# Altium integrated library Capacitors.IntLib: 20 symbols
Pins are listed as number, name and electrical type; pins without a type are passive.

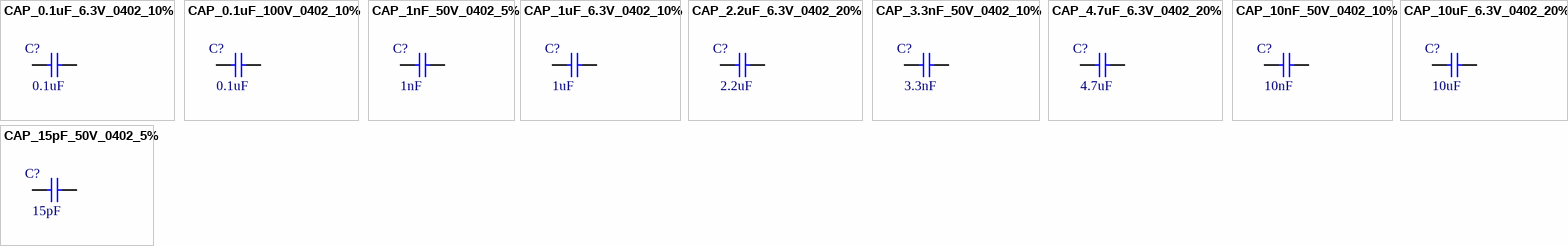
[diagram p0: symbols CAP_0.1uF_6.3V_0402_10% to CAP_15pF_50V_0402_5%]

## CAP_0.1uF_6.3V_0402_10%
designator C?, comment value 0.1uF  (hidden comment: 0.1uF 6.3V 0402)
0.1uF 6.3V 10% 0402 (1005 Metric); PartNumber: GRM155R70J104KA01D; Manufacturer: Murata; Mounting Technology: Surface Mount; PackageReference: 0402; PackageDescription: 0402 (1005 Metric); Voltage: 6.3V; Tolerance: 10%
footprint C0402[1005X55] (Chip Capacitor, Body 1.0x0.5mm)
pins: 1, 2

## CAP_0.1uF_100V_0402_10%
designator C?, comment value 0.1uF  (hidden comment: 0.1uF 100VV 0402)
0.1uF 100V 10% 0402 (1005 Metric); PartNumber: GRM155R62A104KE14D; Manufacturer: Murata; Mounting Technology: Surface Mount; PackageReference: 0402; PackageDescription: 0402 (1005 Metric); Voltage: 100V; Tolerance: 10%
footprint C0402[1005X55] (Chip Capacitor, Body 1.0x0.5mm)
pins: 1, 2

## CAP_1nF_50V_0402_5%
designator C?, comment value 1nF  (hidden comment: 1nF 50V 0402)
1nF 50V 5% 0402 (1005 Metric); PartNumber: GRM1555C1H102JA01D; Manufacturer: Murata; Mounting Technology: Surface Mount; PackageReference: 0402; PackageDescription: 0402 (1005 Metric); Voltage: 50V; Tolerance: 5%
footprint C0402[1005X55] (Chip Capacitor, Body 1.0x0.5mm)
pins: 1, 2

## CAP_1uF_6.3V_0402_10%
designator C?, comment value 1uF  (hidden comment: 1uF 6.3V 0402)
1uF 6.3V 10% 0402 (1005 Metric); PartNumber: GRM155R70J105KA12D; Manufacturer: Murata; Mounting Technology: Surface Mount; PackageReference: 0402; PackageDescription: 0402 (1005 Metric); Voltage: 6.3V; Tolerance: 10%
footprint C0402[1005X55] (Chip Capacitor, Body 1.0x0.5mm)
pins: 1, 2

## CAP_2.2uF_6.3V_0402_20%
designator C?, comment value 2.2uF  (hidden comment: 2.2uF 6.3V 0402)
2.2uF 6.3V 20% 0402 (1005 Metric); PartNumber: GRM155R60J225ME15D; Manufacturer: Murata; Mounting Technology: Surface Mount; PackageReference: 0402; PackageDescription: 0402 (1005 Metric); Voltage: 6.3V; Tolerance: 20%
footprint C0402[1005X55] (Chip Capacitor, Body 1.0x0.5mm)
pins: 1, 2

## CAP_3.3nF_50V_0402_10%
designator C?, comment value 3.3nF  (hidden comment: 3.3nF 50V 0402)
3.3nF 50V 10% 0402 (1005 Metric); PartNumber: GRM155R71H332KA01D; Manufacturer: Murata; Mounting Technology: Surface Mount; PackageReference: 0402; PackageDescription: 0402 (1005 Metric); Voltage: 50V; Tolerance: 10%
footprint C0402[1005X55] (Chip Capacitor, Body 1.0x0.5mm)
pins: 1, 2

## CAP_4.7uF_6.3V_0402_20%
designator C?, comment value 4.7uF  (hidden comment: 4.7uF 6.3V 0402)
4.7uF 6.3V 20% 0402 (1005 Metric); PartNumber: GRM155R60J475ME47D; Manufacturer: Murata; Mounting Technology: Surface Mount; PackageReference: 0402; PackageDescription: 0402 (1005 Metric); Voltage: 6.3V; Tolerance: 20%
footprint C0402[1005X55] (Chip Capacitor, Body 1.0x0.5mm)
pins: 1, 2

## CAP_10nF_50V_0402_10%
designator C?, comment value 10nF  (hidden comment: 10nF 50V 0402)
10nF 50V 10% 0402 (1005 Metric); PartNumber: GCM155R71H103KA55D; Manufacturer: Murata; Mounting Technology: Surface Mount; PackageReference: 0402; PackageDescription: 0402 (1005 Metric); Voltage: 50V; Tolerance: 10%
footprint C0402[1005X55] (Chip Capacitor, Body 1.0x0.5mm)
pins: 1, 2

## CAP_10uF_6.3V_0402_20%
designator C?, comment value 10uF  (hidden comment: 10uF 6.3V 0402)
10uF 6.3V 20% 0402 (1005 Metric); PartNumber: GRM155R60J106ME44D; Manufacturer: Murata; Mounting Technology: Surface Mount; PackageReference: 0402; PackageDescription: 0402 (1005 Metric); Voltage: 6.3V; Tolerance: 20%
footprint C0402[1005X55] (Chip Capacitor, Body 1.0x0.5mm)
pins: 1, 2

## CAP_15pF_50V_0402_5%
designator C?, comment value 15pF  (hidden comment: 15pF 50V 0402)
15pF 50V 5% 0402 (1005 Metric); PartNumber: GRM1555C1H150JA01D; Manufacturer: Murata; Mounting Technology: Surface Mount; PackageReference: 0402; PackageDescription: 0402 (1005 Metric); Voltage: 50V; Tolerance: 5%
footprint C0402[1005X55] (Chip Capacitor, Body 1.0x0.5mm)
pins: 1, 2


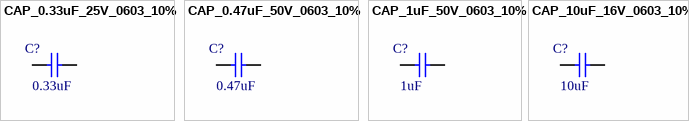
[diagram p1: symbols CAP_0.33uF_25V_0603_10% to CAP_10uF_16V_0603_10%]

## CAP_0.33uF_25V_0603_10%
designator C?, comment value 0.33uF  (hidden comment: 0.33uF 25V 0603)
0.33uF 25V 10% 0603 (1608 Metric); PartNumber: GCJ188R91E334KA01D; Manufacturer: Murata; Mounting Technology: Surface Mount; PackageReference: 0603; PackageDescription: 0603 (1608 Metric); Voltage: 25V; Tolerance: 10%
footprint C0603[1608X92] (Chip Capacitor, Body 1.6x0.8mm)
pins: 1, 2

## CAP_0.47uF_50V_0603_10%
designator C?, comment value 0.47uF  (hidden comment: 0.47uF 50V 0603)
0.47uF 50V 10% 0603 (1608 Metric); PartNumber: GRM188R61H474KA12D; Manufacturer: Murata; Mounting Technology: Surface Mount; PackageReference: 0603; PackageDescription: 0603 (1608 Metric); Voltage: 50V; Tolerance: 10%
footprint C0603[1608X92] (Chip Capacitor, Body 1.6x0.8mm)
pins: 1, 2

## CAP_1uF_50V_0603_10%
designator C?, comment value 1uF  (hidden comment: 1uF 50V 0603)
1uF 50V 10% 0603 (1608 Metric); PartNumber: GRM188R61H105KAALD; Manufacturer: Murata; Mounting Technology: Surface Mount; PackageReference: 0603; PackageDescription: 0603 (1608 Metric); Voltage: 50V; Tolerance: 10%
footprint C0603[1608X92] (Chip Capacitor, Body 1.6x0.8mm)
pins: 1, 2

## CAP_10uF_16V_0603_10%
designator C?, comment value 10uF  (hidden comment: 10uF 16V 0603)
10uF 16V 10% 0603 (1608 Metric); PartNumber: GRM188R61C106KAALD; Manufacturer: Murata; Mounting Technology: Surface Mount; PackageReference: 0603; PackageDescription: 0603 (1608 Metric); Voltage: 16V; Tolerance: 10%
footprint C0603[1608X92] (Chip Capacitor, Body 1.6x0.8mm)
pins: 1, 2


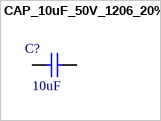
[diagram p2: symbol CAP_10uF_50V_1206_20%]

## CAP_10uF_50V_1206_20%
designator C?, comment value 10uF  (hidden comment: 10uF 50V 1206)
10uF 50V 20% 1206 (3216 Metric); PartNumber: UMK316BBJ106ML-T; Manufacturer: Taiyo Yuden; Mounting Technology: Surface Mount; PackageReference: 1206; PackageDescription: 1206 (3216 Metric); Voltage: 50V; Tolerance: 20%
footprint C1206[3216X160] (Chip Capacitor, Body 3.2x1.6mm)
pins: 1, 2


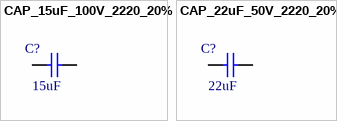
[diagram p3: symbols CAP_15uF_100V_2220_20% to CAP_22uF_50V_2220_20%]

## CAP_15uF_100V_2220_20%
designator C?, comment value 15uF  (hidden comment: 15uF 100V 2220)
15uF 100V 20% 2220 (5750 Metric); PartNumber: C5750X7S2A156M250KB; Manufacturer: TDK; Mounting Technology: Surface Mount; PackageReference: 2220; PackageDescription: 2220 (5750 Metric); Voltage: 100V; Tolerance: 20%
footprint C2220[5750X230] (Chip Capacitor, Body 5.7x5.0mm)
pins: 1, 2

## CAP_22uF_50V_2220_20%
designator C?, comment value 22uF  (hidden comment: 22uF 50V 2220)
22uF 50V 20% 2220 (5750 Metric); PartNumber: KRM55TR71H226MH01K; Manufacturer: Murata; Mounting Technology: Surface Mount; PackageReference: 2220; PackageDescription: 2220 (5750 Metric); Voltage: 50V; Tolerance: 20%
footprint C2220[5750X480] (Chip Capacitor, Body 5.7x5.0mm)
pins: 1, 2


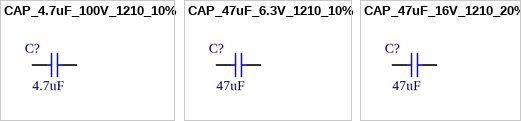
[diagram p4: symbols CAP_4.7uF_100V_1210_10% to CAP_47uF_16V_1210_20%]

## CAP_4.7uF_100V_1210_10%
designator C?, comment value 4.7uF  (hidden comment: 4.7uF 100V 1210)
4.7uF 100V 10% 1210 (3225 Metric); PartNumber: GRJ32DC72A475KE11L; Manufacturer: Murata; Mounting Technology: Surface Mount; PackageReference: 1210; PackageDescription: 1210 (3225 Metric); Voltage: 100V; Tolerance: 10%
footprint C1210[3225X200] (Chip Capacitor, Body 3.2x2.5mm)
pins: 1, 2

## CAP_47uF_6.3V_1210_10%
designator C?, comment value 47uF  (hidden comment: 47uF 6.3V 1210)
47uF 6.3V 10% 1210 (3225 Metric); PartNumber: GRM32ER70J476KE20L; Manufacturer: Murata; Mounting Technology: Surface Mount; PackageReference: 1210; PackageDescription: 1210 (3225 Metric); Voltage: 6.3V; Tolerance: 10%
footprint C1210[3225X250] (Chip Capacitor, Body 3.2x2.5mm)
pins: 1, 2

## CAP_47uF_16V_1210_20%
designator C?, comment value 47uF  (hidden comment: 47uF 16V 1210)
47uF 16V 20% 1210 (3225 Metric); PartNumber: GRM32ER61C476ME15L; Manufacturer: Murata; Mounting Technology: Surface Mount; PackageReference: 1210; PackageDescription: 1210 (3225 Metric); Voltage: 16V; Tolerance: 20%
footprint C1210[3225X250] (Chip Capacitor, Body 3.2x2.5mm)
pins: 1, 2